# Altium footprint library Modulo-1B-TY.PcbLib: 23 footprints (part 1 of 2)
Each footprint in its own frame and in the unit in brackets; x right, y up, seen from the top. Pads: shape width x height; smd on the part's side, far side on the other; paste and mask are expansions set on the pad; w line width, h text height; cw(c..) or ccw(c..) is an arc to the next point about the centre after c.
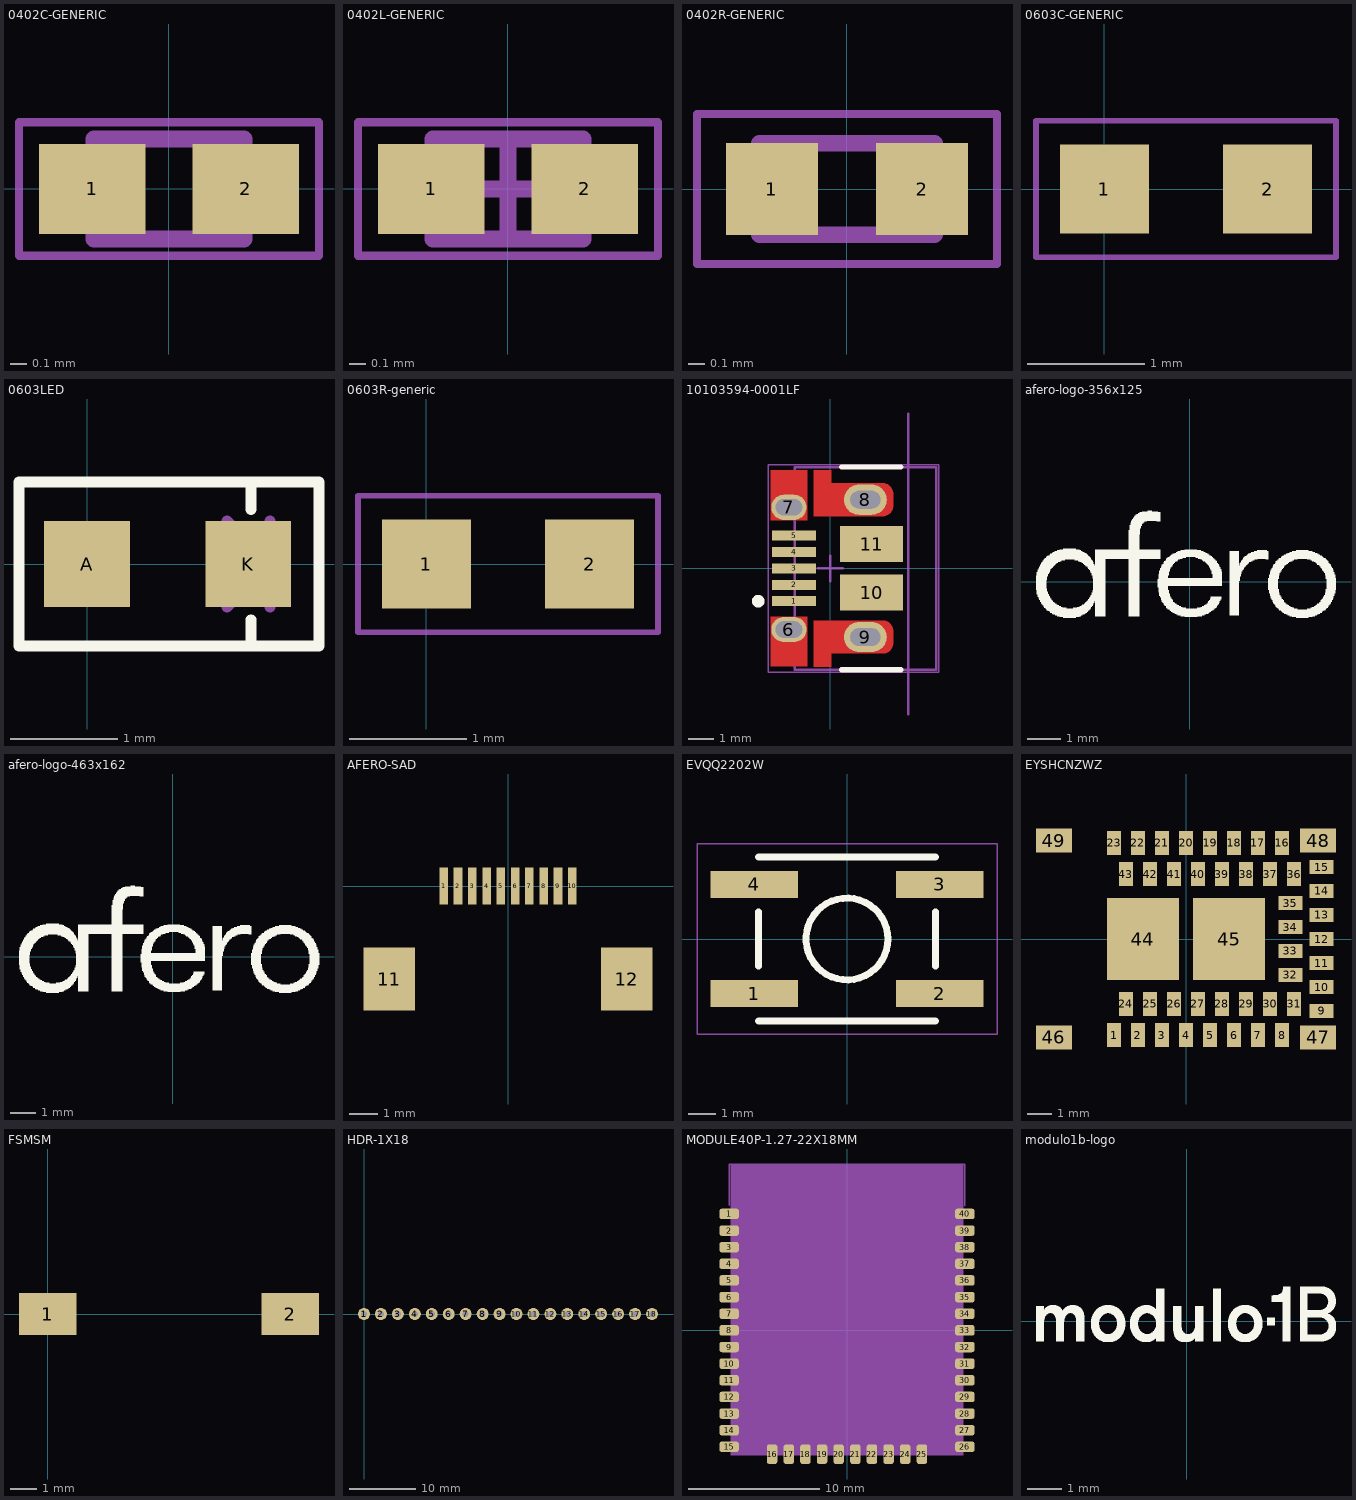
[diagram p0: the footprints below, top view; thin cyan lines are the x and y axes]

## 0402C-GENERIC [mm] "Chip Capacitor, 2-Leads, Body 1.00x0.50mm, IPC High Density"
height 0.55
pads (2):
  rect 0.64x0.54 smd: 1(-0.46,0) 2(0.46,0)
Mechanical 13:
  lines w0.1: -0.45,-0.3 -0.45,0.3 0.45,0.3 0.45,-0.3 -0.45,-0.3
Mechanical 15:
  lines w0.05: -0.9,-0.4 -0.9,0.4 0.9,0.4 0.9,-0.4 -0.9,-0.4
Mechanical 29:
  lines w0.05: -0.45,-0.3 -0.45,0.3 0.45,0.3 0.45,-0.3 -0.45,-0.3
  text ".Designator" at -0.635,-0.203 h0.7
3D body "CAPC1005X06L.step": height 0.55, standoff 0, extent -0.45,-0.3 0.45,0.3

## 0402L-GENERIC [mm] "Chip Inductor, 2-Leads, Body 1.00x0.50mm, IPC High Density"
height 0.55
pads (2):
  rect 0.64x0.54 smd: 1(-0.46,0) 2(0.46,0)
Mechanical 13:
  lines w0.1: -0.45,-0.3 0.45,-0.3 0.45,0.3 -0.45,0.3 -0.45,-0.3
Mechanical 15:
  lines w0.05: -0.9,-0.4 0.9,-0.4 0.9,0.4 -0.9,0.4 -0.9,-0.4
  lines w0.1: -0.3,0 0.3,0 ; 0,-0.3 0,0.3
Mechanical 29:
  lines w0.05: -0.45,-0.3 0.45,-0.3 0.45,0.3 -0.45,0.3 -0.45,-0.3
  text ".Designator" at -0.635,-0.203 h0.7
3D body "CAPC1005X06L.step": height 0.55, standoff 0, extent -0.45,-0.3 0.45,0.3

## 0402R-GENERIC [mm] "Chip Resistor, 2-Leads, Body 1.00x0.50mm, IPC Medium Density"
height 0.4
pads (2):
  rect 0.55x0.55 smd: 1(-0.45,0) 2(0.45,0)
Mechanical 13:
  lines w0.1: -0.525,-0.275 -0.525,0.275 0.525,0.275 0.525,-0.275 -0.525,-0.275
Mechanical 15:
  lines w0.05: -0.9,-0.45 -0.9,0.45 0.9,0.45 0.9,-0.45 -0.9,-0.45
Mechanical 29:
  lines w0.05: -0.9,-0.45 -0.9,0.45 0.9,0.45 0.9,-0.45 -0.9,-0.45
  text ".Designator" at -0.635,-0.203 h0.7
3D body: height 0.4, standoff 0, extent -0.275,-0.275 0.275,0.275
3D body: height 0.4, standoff 0, extent -0.525,-0.275 -0.275,0.275
3D body: height 0.4, standoff 0, extent 0.275,-0.275 0.525,0.275

## 0603C-GENERIC [mil] "CAPACITOR 0603"
pads (2):
  rect 30x30 smd: 1(0,0) 2(55,0)
Mechanical 15:
  lines w1.97: -23,-23 78,-23 78,23 -23,23 -23,-23
Mechanical 29:
  lines w1.97: -23,-23 78,-23 78,23 -23,23 -23,-23
  text ".Designator" at -8,-12 h39.37
3D body: height 19, standoff 0, extent -4,-15 12,15
3D body: height 19, standoff 0, extent 43,-15 59,15
3D body: height 18, standoff 0, extent -3,-14 58,14

## 0603LED [mm] "0603 LED"
height 0.8
pads (2):
  rect 0.8x0.8 smd: A(0,0) K(1.5,0)
Top Overlay:
  lines w0.102: 1.524,-0.762 1.524,-0.519 ; 1.524,0.508 1.524,0.751 ; -0.635,-0.762 2.159,-0.762 2.159,0.762 -0.635,0.762 -0.635,-0.762
Mechanical 29:
  lines w0.05: 1.524,-0.751 1.524,-0.508 ; 1.524,0.508 1.524,0.751 ; -0.635,-0.762 -0.635,0.762 2.159,0.762 2.159,-0.762 -0.635,-0.762
  lines w0.102: 1.702,-0.4 1.702,0.4 ; 1.302,-0.4 1.702,0 1.302,0.4 1.302,-0.4
  text ".Designator" at -0.356,-0.305 h1
3D body "User Library-LED_0603_WS.STEP": height 0.6, standoff 0, extent -0.038,-0.4 1.562,0.4

## 0603R-generic [mil] "RESISTOR 0603"
pads (2):
  rect 30x30 smd: 1(0,0) 2(55,0)
Mechanical 15:
  lines w1.97: -23,-23 -23,23 78,23 78,-23 -23,-23
Mechanical 29:
  lines w1.97: -23,-23 78,-23 78,23 -23,23 -23,-23
  text ".Designator" at -10,-12 h39.37
3D body: height 18, standoff 0, extent -3,-14 58,14
3D body: height 19, standoff 18, extent 5,-13 50,13
3D body: height 19, standoff 0, extent 50,-15 59,15
3D body: height 19, standoff 0, extent -4,-15 5,15

## 10103594-0001LF [mm] "USB Micro B"
height 3
pads (11):
  rect 1.75x0.4 smd: 1(-1.435,-1.3) 2(-1.435,-0.65) 3(-1.435,0) 4(-1.435,0.65) 5(-1.435,1.3)
  oval 1.4x1 hole 0.65 slot 1.05 at 0 deg: 6(-1.64,-2.425) 7(-1.64,2.425)
  oval 1.7x1.2 hole 0.7 slot 1.2 at 0 deg: 8(1.39,2.725) 9(1.39,-2.725)
  rect 2.5x1.425 smd: 10(1.64,-0.962) 11(1.64,0.962)
Top Layer:
  region: -0.91,-3.9 -0.91,-1.9 -2.37,-1.9 -2.37,-3.9
  region: -2.37,3.9 -2.37,1.9 -0.91,1.9 -0.91,3.9
  region: 0.04,-3.375 2.09,-3.375 2.129,-3.373 2.167,-3.369 2.185,-3.365 2.203,-3.359 2.239,-3.348 2.277,-3.329 2.312,-3.308 2.344,-3.284 2.374,-3.258 2.401,-3.227 2.426,-3.194 2.446,-3.158 2.464,-3.121 2.477,-3.08 2.483,-3.049 2.488,-3.012 2.49,-2.975 2.49,-2.475 2.488,-2.432 2.482,-2.391 2.471,-2.351 2.456,-2.312 2.439,-2.28 2.421,-2.249 2.397,-2.217 2.37,-2.19 2.342,-2.164 2.312,-2.143 2.277,-2.121 2.241,-2.105 2.209,-2.093 2.192,-2.088 2.175,-2.084 2.155,-2.08 2.134,-2.076 2.112,-2.075 2.09,-2.075 0.04,-2.075 -0.66,-2.075 -0.66,-3.9 0.04,-3.9
  region: 0.04,3.375 2.09,3.375 2.129,3.373 2.167,3.369 2.185,3.365 2.203,3.359 2.239,3.348 2.277,3.329 2.312,3.308 2.344,3.284 2.374,3.258 2.401,3.227 2.426,3.194 2.446,3.158 2.464,3.121 2.477,3.08 2.483,3.049 2.488,3.012 2.49,2.975 2.49,2.475 2.488,2.432 2.481,2.391 2.471,2.351 2.456,2.312 2.439,2.28 2.421,2.249 2.396,2.217 2.37,2.19 2.342,2.164 2.312,2.143 2.277,2.121 2.241,2.105 2.209,2.093 2.192,2.088 2.175,2.084 2.155,2.08 2.134,2.076 2.112,2.075 2.09,2.075 0.04,2.075 -0.66,2.075 -0.66,3.9 0.04,3.9
Top Overlay:
  circle w0.25: c-2.86,-1.3 r0.125
  lines w0.2: 0.44,-4.02 2.8,-4.02 2.077,-4.02 ; 0.44,4.02 2.8,4.02
Mechanical 1:
  lines w0.1: 3.09,-5.775 3.09,6.125
  text "PCB Edge" at 2.9,4.2 h0.5
Mechanical 13:
  lines w0.1: -1.41,-4.02 4.21,-4.02 4.21,4.02 -1.41,4.02 -1.41,-4.02
Mechanical 15:
  lines w0.05: -2.47,-4.12 -2.47,4.12 4.31,4.12 4.31,-4.12 -2.47,-4.12
  lines w0.1: -0.5,0 0.5,0 ; 0,-0.5 0,0.5
Mechanical 29:
  text "'.Designator'" at 0.559,-3.073 h2
3D body "10103594.stp": height 2.9, standoff -0.7, extent -1.884,-4.02 4.149,4.02

## afero-logo-356x125 [mm]
Top Overlay:
  drawing of 646 lines, arcs and shapes, not listed

## afero-logo-463x162 [mm]
Top Overlay:
  drawing of 646 lines, arcs and shapes, not listed

## AFERO-SAD [mm] "Afero Debug"
pads (12):
  rect 0.3x1.3 smd: 1(-2.25,0) 2(-1.75,0) 3(-1.25,0) 4(-0.75,0) 5(-0.25,0) 6(0.25,0) 7(0.75,0) 8(1.25,0) 9(1.75,0) 10(2.25,0)
  rect 1.8x2.2 smd: 11(-4.15,-3.25) 12(4.15,-3.25)
Mechanical 29:
  text "'.Designator'" at -2.667,-4.064 h2
3D body "FH12-10S-0.5SH.stp": height 2.06, standoff -0.04, extent -4.55,-6.15 4.55,0.25

## EVQQ2202W [mm] "SMD Tact Switch"
pads (4):
  rect 3.2x1 smd: 1(-3.4,-2) 2(3.4,-2) 3(3.4,2) 4(-3.4,2)
Top Overlay:
  circle w0.254: c0,0 r1.5
  lines w0.254: -3.25,-3 3.25,-3 ; -3.25,-1 -3.25,1 ; -3.25,3 3.25,3 ; 3.25,-1 3.25,1
Mechanical 29:
  lines w0.05: -5.5,-3.5 5.5,-3.5 5.5,3.5 -5.5,3.5 -5.5,-3.5
  text ".Designator" at -3.25,-0.5 h2
3D body "evqq2202w.stp": height 2.51, standoff 0.01, extent -3.3,-3.049 3.307,3.05

## EYSHCNZWZ [mm] "Bluetooth 5.0 Low Energy Module"
height 2
pads (49):
  rect 0.6x1 smd paste-0.05: 1(-3,-4) 2(-2,-4) 3(-1,-4) 4(0,-4) 5(1,-4) 6(2,-4) 7(3,-4) 8(4,-4) 16(4,4) 17(3,4) 18(2,4) 19(1,4) 20(0,4) 21(-1,4) 22(-2,4) 23(-3,4) 24(-2.5,-2.7) 25(-1.5,-2.7) 26(-0.5,-2.7) 27(0.5,-2.7) 28(1.5,-2.7) 29(2.5,-2.7) 30(3.5,-2.7) 31(4.5,-2.7) 36(4.5,2.7) 37(3.5,2.7) 38(2.5,2.7) 39(1.5,2.7) 40(0.5,2.7) 41(-0.5,2.7) 42(-1.5,2.7) 43(-2.5,2.7)
  rect 1x0.6 smd paste-0.05: 9(5.65,-3) 10(5.65,-2) 11(5.65,-1) 12(5.65,0) 13(5.65,1) 14(5.65,2) 15(5.65,3) 32(4.35,-1.5) 33(4.35,-0.5) 34(4.35,0.5) 35(4.35,1.5)
  rect 3x3.4 smd paste-0.2: 44(-1.8,0) 45(1.8,0)
  rect 1.5x1 smd paste-0.17: 46(-5.5,-4.1) 47(5.5,-4.1) 48(5.5,4.1) 49(-5.5,4.1)
Mechanical 29:
  text ".designator" at -5.5,-1 h4
3D body: height 2, standoff 0, extent -6.352,-4.702 6.352,4.702

## FSMSM [mm] "SPST Tactile Switch"
height 4.57
pads (2):
  rect 2.18x1.6 smd: 1(0,0) 2(9.2,0)
Mechanical 29:
  text ".Designator" at 1.803,-0.787 h2
3D body "c-1437566-3-c-3d.stp": height 4.43, standoff 0.01, extent -0.284,-1.75 9.685,1.75

## HDR-1X18 [mm] "Machine Pin Vertical Male Header 18 pins"
height 6.5
pads (18):
  round 1.8 hole 0.9: 1(0,0) 2(2.54,0) 3(5.08,0) 4(7.62,0) 5(10.16,0) 6(12.7,0) 7(15.24,0) 8(17.78,0) 9(20.32,0) 10(22.86,0) 11(25.4,0) 12(27.94,0) 13(30.48,0) 14(33.02,0) 15(35.56,0) 16(38.1,0) 17(40.64,0) 18(43.18,0)

## MODULE40P-1.27-22X18MM [mil] "MODULE40P-1.27-22X18MM"
pads (40):
  rrect50% 59.06x31.5 smd: 1(-354.33,350) 2(-354.33,300) 3(-354.33,250) 4(-354.33,200) 5(-354.33,150) 6(-354.33,100) 7(-354.33,50) 8(-354.33,0) 9(-354.33,-50) 10(-354.33,-100) 11(-354.33,-150) 12(-354.33,-200) 13(-354.33,-250) 14(-354.33,-300) 15(-354.33,-350) 26(354.33,-350) 27(354.33,-300) 28(354.33,-250) 29(354.33,-200) 30(354.33,-150) 31(354.33,-100) 32(354.33,-50) 33(354.33,0) 34(354.33,50) 35(354.33,100) 36(354.33,150) 37(354.33,200) 38(354.33,250) 39(354.33,300) 40(354.33,350)
  rrect50% 31.5x59.06 smd: 16(-225,-372.05) 17(-175,-372.05) 18(-125,-372.05) 19(-75,-372.05) 20(-25,-372.05) 21(25,-372.05) 22(75,-372.05) 23(125,-372.05) 24(175,-372.05) 25(225,-372.05)
Mechanical 2:
  circle w0: c-296.81,350 r10
  lines w5: -354.33,377.01 -354.33,498.82 354.33,498.82 354.33,375 ; -317.68,-372.05 -250.98,-372.05 ; 249.02,-372.05 320,-372.05
  text "40" at 247.01,330 h54.25
Mechanical 16:
  region: -350,-375 -350,500 350,500 350,-375

## modulo1b-logo [mm]
Top Overlay:
  drawing of 2627 lines, arcs and shapes, not listed